# Altium schematic symbol library 749013011.SchLib: 1 symbol
Pins are listed as number, name and electrical type; pins without a type are passive.

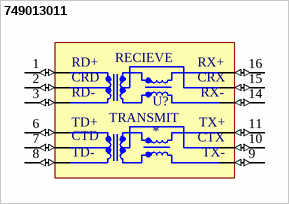
[diagram p0: symbol 749013011]

## 749013011
designator U?
LAN 10/100 Base-T, Power over Ethernet (PoE) Pulse Transformer 1:1 Surface Mount; MF: Wurth Elektronik; MP: 749013011; SnapEDA_Link: https://www.snapeda.com/parts/749013011/Wurth+Electronics/view-part/?ref=snap; Package: Wurth Elektronik; Value: *; Check_prices: https://www.snapeda.com/parts/749013011/Wurth+Electronics/view-part/?ref=eda
footprint 749013011
pins: 1 RD+ (io), 2 RCT (io), 3 RD- (io), 6 TD+ (io), 7 TCT (io), 8 TD- (io), 9 TX- (io), 10 TXCT (io), 11 TX+ (io), 14 RX- (io), 15 RXCT (io), 16 RX+ (io)
text: RECIEVE; CRD; CRX; TRANSMIT; CTD; CTX